# EAGLE library part HEADER_1X6 (library logic-supply)
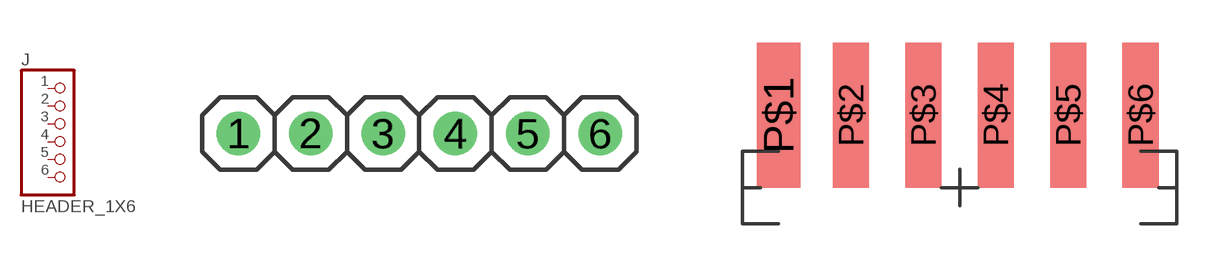
[diagram p20: symbol with the pads of HEADER_1X6; footprints HEADER_1X6, HEADER_1X6_SMT]

Designator prefix J

## HEADER_1X6-PTH  [HEADER_1X6]
1  1  pas
2  2  pas
3  3  pas
4  4  pas
5  5  pas
6  6  pas

## HEADER_1X6-SMD  [HEADER_1X6_SMT]
P$1  1  pas
P$2  2  pas
P$3  3  pas
P$4  4  pas
P$5  5  pas
P$6  6  pas

## Footprint HEADER_1X6 (pad centres in mm)
drill 1.016: 1 0,0; 2 2.54,0; 3 5.08,0; 4 7.62,0; 5 10.16,0; 6 12.7,0

## Footprint HEADER_1X6_SMT (pad centres in mm)
smd 1.524 x 5.08: P$1 -6.35,2.54
smd 1.27 x 5.08: P$2 -3.81,2.54; P$3 -1.27,2.54; P$4 1.27,2.54; P$5 3.81,2.54; P$6 6.35,2.54